# EAGLE library part ADAFRUIT_DAC_MODEL (library myFab)
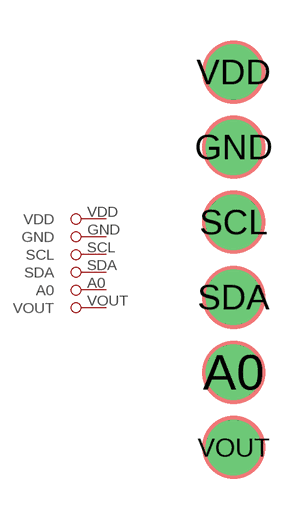
[diagram p19: symbol with the pads of ADAFRUIT_DAC_MODEL; footprint ADAFRUIT_DAC_MODEL]

Designator prefix -

## ADAFRUIT_DAC_MODEL  [ADAFRUIT_DAC_MODEL]
A0  A0
GND  GND
SCL  SCL
SDA  SDA
VDD  VDD
VOUT  VOUT

## Footprint ADAFRUIT_DAC_MODEL (pad centres in mm)
drill 1.016 pad 1.88: A0 1.27,-3.81; GND 1.27,3.81; SCL 1.27,1.27; SDA 1.27,-1.27; VDD 1.27,6.35; VOUT 1.27,-6.35